# Altium footprint library Connector_TE-Connectivity.PcbLib: 65 footprints (part 3 of 5)
Each footprint in its own frame and in the unit in brackets; x right, y up, seen from the top. Pads: shape width x height; smd on the part's side, far side on the other; paste and mask are expansions set on the pad; w line width, h text height; cw(c..) or ccw(c..) is an arc to the next point about the centre after c.
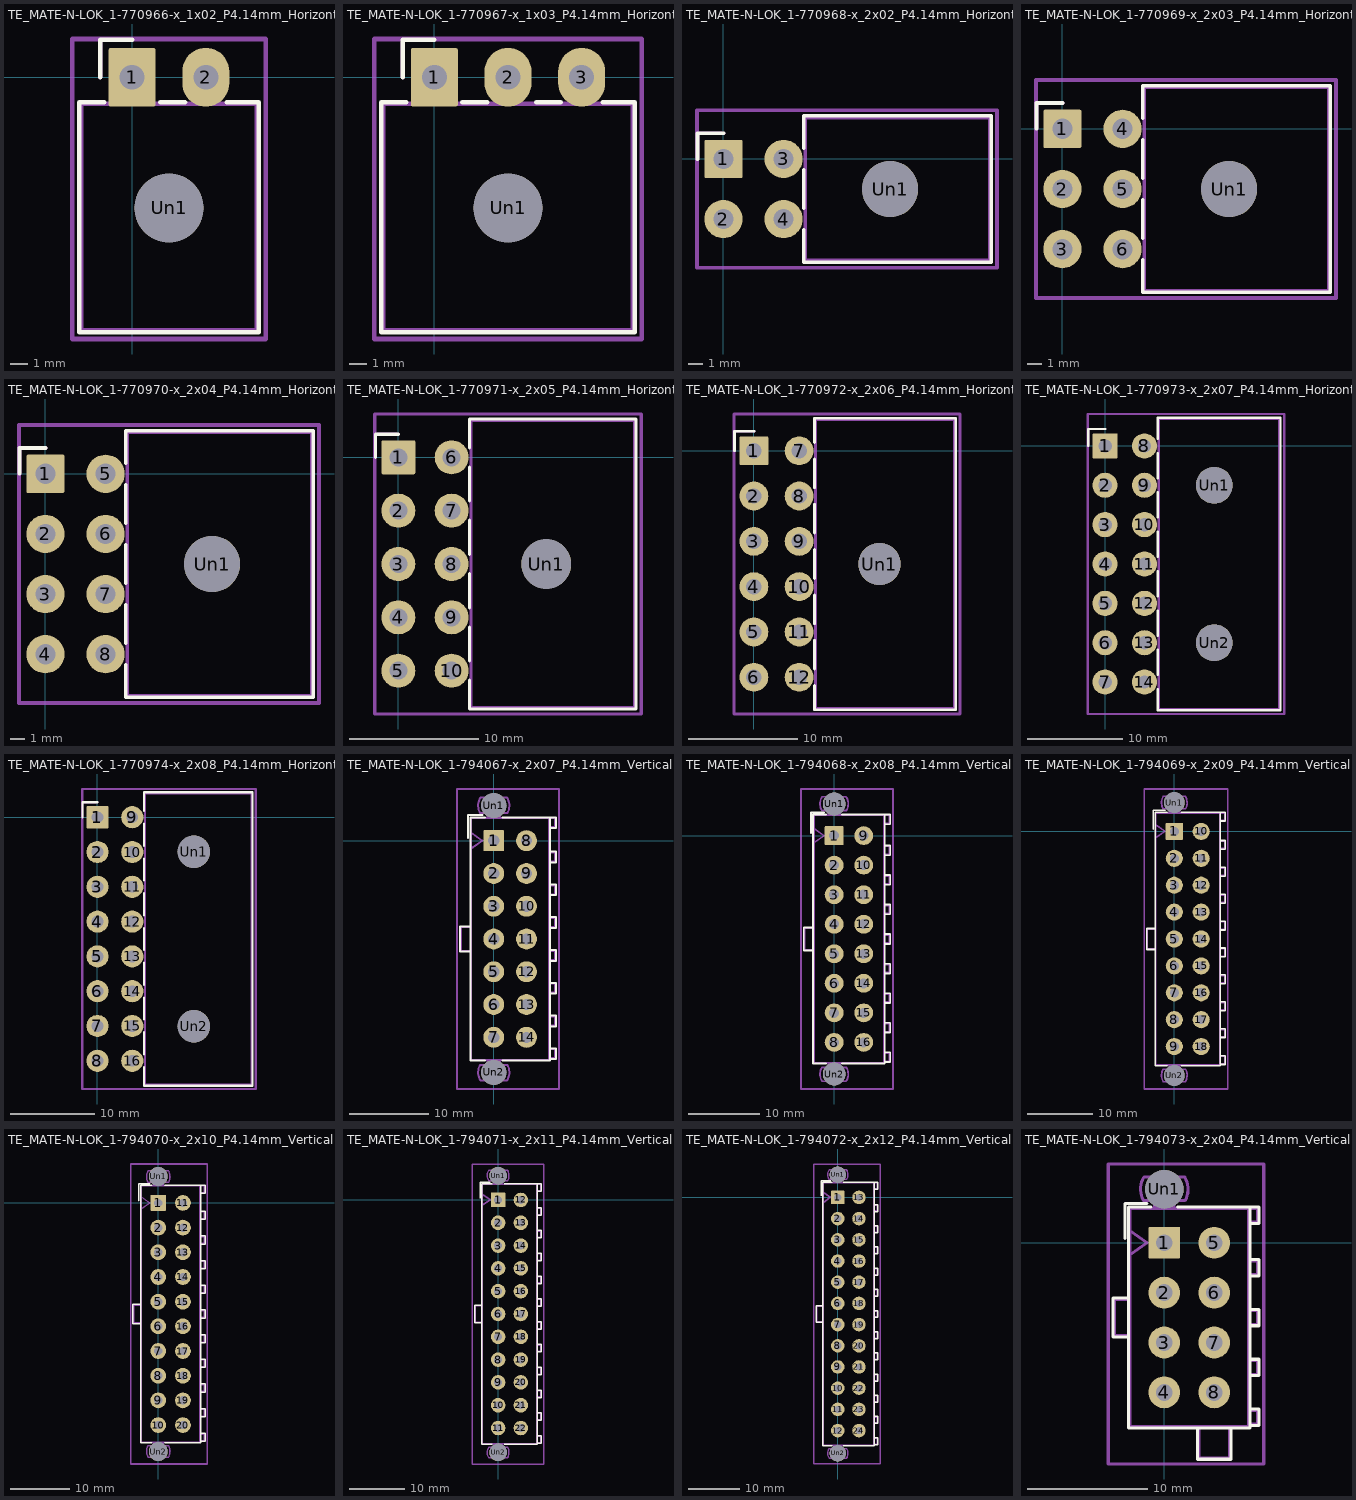
[diagram p2: the footprints below, top view; thin cyan lines are the x and y axes]

## TE_MATE-N-LOK_1-770966-x_1x02_P4.14mm_Horizontal [mm]
pads (3):
  rrect9% 2.64x3.3 hole 1.4: 1(0,0)
  rrect100% 2.64x3.3 hole 1.4: 2(4.14,0)
  round 3.86 hole 3.86: Un1(2.07,-7.34)
F.SilkS:
  lines w0.254: -1.78,0 -1.78,2.11 0,2.11 ; -1.58,-1.39 -2.97,-1.39 -2.97,-14.31 7.11,-14.31 7.11,-1.39 5.312,-1.39 ; 1.58,-1.39 2.968,-1.39
Top Assembly:
  lines w0.254: -1.78,0 -1.78,2.11 0,2.11 ; -2.86,-14.2 7,-14.2 7,-1.5 -2.86,-1.5 -2.86,-14.2
  text "'.Designator'" at -1.977,-14.34 h1
Top Courtyard:
  lines w0.254: -3.36,-14.7 7.5,-14.7 7.5,2.15 -3.36,2.15 -3.36,-14.7
Top Designator:
  text ".Designator" at -5.548,-6.783 h1.52

## TE_MATE-N-LOK_1-770967-x_1x03_P4.14mm_Horizontal [mm]
pads (4):
  rrect9% 2.64x3.3 hole 1.4: 1(0,0)
  rrect100% 2.64x3.3 hole 1.4: 2(4.14,0) 3(8.28,0)
  round 3.86 hole 3.86: Un1(4.14,-7.34)
F.SilkS:
  lines w0.254: -1.78,0 -1.78,2.11 0,2.11 ; -1.58,-1.39 -2.97,-1.39 -2.97,-14.31 11.25,-14.31 11.25,-1.39 9.452,-1.39 ; 1.58,-1.39 2.968,-1.39 ; 5.72,-1.39 7.108,-1.39
Top Assembly:
  lines w0.254: -1.78,0 -1.78,2.11 0,2.11 ; -2.86,-14.2 11.14,-14.2 11.14,-1.5 -2.86,-1.5 -2.86,-14.2
  text "'.Designator'" at 0.093,-14.34 h1
Top Courtyard:
  lines w0.254: -3.36,-14.7 11.64,-14.7 11.64,2.15 -3.36,2.15 -3.36,-14.7
Top Designator:
  text ".Designator" at -3.478,-6.783 h1.52

## TE_MATE-N-LOK_1-770968-x_2x02_P4.14mm_Horizontal [mm]
pads (5):
  rrect9% 2.64x2.64 hole 1.4: 1(0,0)
  round 2.64 hole 1.4: 2(0,-4.14) 3(4.14,0) 4(4.14,-4.14)
  round 3.86 hole 3.86: Un1(11.48,-2.07)
F.SilkS:
  lines w0.254: -1.78,0 -1.78,1.78 0,1.78 ; 5.53,-4.891 5.53,-7.11 18.45,-7.11 18.45,2.97 5.53,2.97 5.53,0.751 ; 5.53,-3.389 5.53,-0.751
Top Assembly:
  lines w0.254: -1.78,0 -1.78,1.78 0,1.78 ; 5.64,-7 18.34,-7 18.34,2.86 5.64,2.86 5.64,-7
  text "'.Designator'" at 18.48,-6.117 h1
Top Courtyard:
  lines w0.254: -1.82,-7.5 18.84,-7.5 18.84,3.36 -1.82,3.36 -1.82,-7.5
Top Designator:
  text ".Designator" at 0.892,-2.578 h1.52

## TE_MATE-N-LOK_1-770969-x_2x03_P4.14mm_Horizontal [mm]
pads (7):
  rrect9% 2.64x2.64 hole 1.4: 1(0,0)
  round 2.64 hole 1.4: 2(0,-4.14) 3(0,-8.28) 4(4.14,0) 5(4.14,-4.14) 6(4.14,-8.28)
  round 3.86 hole 3.86: Un1(11.48,-4.14)
F.SilkS:
  lines w0.254: -1.78,0 -1.78,1.78 0,1.78 ; 5.53,-9.031 5.53,-11.25 18.45,-11.25 18.45,2.97 5.53,2.97 5.53,0.751 ; 5.53,-7.529 5.53,-4.891 ; 5.53,-3.389 5.53,-0.751
Top Assembly:
  lines w0.254: -1.78,0 -1.78,1.78 0,1.78 ; 5.64,-11.14 18.34,-11.14 18.34,2.86 5.64,2.86 5.64,-11.14
  text "'.Designator'" at 18.48,-8.187 h1
Top Courtyard:
  lines w0.254: -1.82,-11.64 18.84,-11.64 18.84,3.36 -1.82,3.36 -1.82,-11.64
Top Designator:
  text ".Designator" at 0.892,-4.648 h1.52

## TE_MATE-N-LOK_1-770970-x_2x04_P4.14mm_Horizontal [mm]
pads (9):
  rrect9% 2.64x2.64 hole 1.4: 1(0,0)
  round 2.64 hole 1.4: 2(0,-4.14) 3(0,-8.28) 4(0,-12.42) 5(4.14,0) 6(4.14,-4.14) 7(4.14,-8.28) 8(4.14,-12.42)
  round 3.86 hole 3.86: Un1(11.48,-6.21)
F.SilkS:
  lines w0.254: -1.78,0 -1.78,1.78 0,1.78 ; 5.53,-13.171 5.53,-15.39 18.45,-15.39 18.45,2.97 5.53,2.97 5.53,0.751 ; 5.53,-11.669 5.53,-9.031 ; 5.53,-7.529 5.53,-4.891 ; 5.53,-3.389 5.53,-0.751
Top Assembly:
  lines w0.254: -1.78,0 -1.78,1.78 0,1.78 ; 5.64,-15.28 18.34,-15.28 18.34,2.86 5.64,2.86 5.64,-15.28
  text "'.Designator'" at 18.48,-10.257 h1
Top Courtyard:
  lines w0.254: -1.82,-15.78 18.84,-15.78 18.84,3.36 -1.82,3.36 -1.82,-15.78
Top Designator:
  text ".Designator" at 0.892,-6.718 h1.52

## TE_MATE-N-LOK_1-770971-x_2x05_P4.14mm_Horizontal [mm]
pads (11):
  rrect9% 2.64x2.64 hole 1.4: 1(0,0)
  round 2.64 hole 1.4: 2(0,-4.14) 3(0,-8.28) 4(0,-12.42) 5(0,-16.56) 6(4.14,0) 7(4.14,-4.14) 8(4.14,-8.28) 9(4.14,-12.42) 10(4.14,-16.56)
  round 3.86 hole 3.86: Un1(11.48,-8.28)
F.SilkS:
  lines w0.254: -1.78,0 -1.78,1.78 0,1.78 ; 5.53,-17.311 5.53,-19.53 18.45,-19.53 18.45,2.97 5.53,2.97 5.53,0.751 ; 5.53,-15.809 5.53,-13.171 ; 5.53,-11.669 5.53,-9.031 ; 5.53,-7.529 5.53,-4.891 ; 5.53,-3.389 5.53,-0.751
Top Assembly:
  lines w0.254: -1.78,0 -1.78,1.78 0,1.78 ; 5.64,-19.42 18.34,-19.42 18.34,2.86 5.64,2.86 5.64,-19.42
  text "'.Designator'" at 18.48,-12.327 h1
Top Courtyard:
  lines w0.254: -1.82,-19.92 18.84,-19.92 18.84,3.36 -1.82,3.36 -1.82,-19.92
Top Designator:
  text ".Designator" at 0.892,-8.788 h1.52

## TE_MATE-N-LOK_1-770972-x_2x06_P4.14mm_Horizontal [mm]
pads (13):
  rrect9% 2.64x2.64 hole 1.4: 1(0,0)
  round 2.64 hole 1.4: 2(0,-4.14) 3(0,-8.28) 4(0,-12.42) 5(0,-16.56) 6(0,-20.7) 7(4.14,0) 8(4.14,-4.14) 9(4.14,-8.28) 10(4.14,-12.42) 11(4.14,-16.56) 12(4.14,-20.7)
  round 3.86 hole 3.86: Un1(11.48,-10.35)
F.SilkS:
  lines w0.254: -1.78,0 -1.78,1.78 0,1.78 ; 5.53,-21.451 5.53,-23.67 18.45,-23.67 18.45,2.97 5.53,2.97 5.53,0.751 ; 5.53,-19.949 5.53,-17.311 ; 5.53,-15.809 5.53,-13.171 ; 5.53,-11.669 5.53,-9.031 ; 5.53,-7.529 5.53,-4.891 ; 5.53,-3.389 5.53,-0.751
Top Assembly:
  lines w0.254: -1.78,0 -1.78,1.78 0,1.78 ; 5.64,-23.56 18.34,-23.56 18.34,2.86 5.64,2.86 5.64,-23.56
  text "'.Designator'" at 18.48,-14.397 h1
Top Courtyard:
  lines w0.254: -1.82,-24.06 18.84,-24.06 18.84,3.36 -1.82,3.36 -1.82,-24.06
Top Designator:
  text ".Designator" at 0.892,-10.858 h1.52

## TE_MATE-N-LOK_1-770973-x_2x07_P4.14mm_Horizontal [mm]
pads (16):
  rrect9% 2.64x2.64 hole 1.4: 1(0,0)
  round 2.64 hole 1.4: 2(0,-4.14) 3(0,-8.28) 4(0,-12.42) 5(0,-16.56) 6(0,-20.7) 7(0,-24.84) 8(4.14,0) 9(4.14,-4.14) 10(4.14,-8.28) 11(4.14,-12.42) 12(4.14,-16.56) 13(4.14,-20.7) 14(4.14,-24.84)
  round 3.86 hole 3.86: Un1(11.48,-4.14) Un2(11.48,-20.7)
F.SilkS:
  lines w0.254: -1.78,0 -1.78,1.78 0,1.78 ; 5.53,-25.591 5.53,-27.81 18.45,-27.81 18.45,2.97 5.53,2.97 5.53,0.751 ; 5.53,-24.089 5.53,-21.451 ; 5.53,-19.949 5.53,-17.311 ; 5.53,-15.809 5.53,-13.171 ; 5.53,-11.669 5.53,-9.031 ; 5.53,-7.529 5.53,-4.891 ; 5.53,-3.389 5.53,-0.751
Top Assembly:
  lines w0.254: -1.78,0 -1.78,1.78 0,1.78 ; 5.64,-27.7 18.34,-27.7 18.34,2.86 5.64,2.86 5.64,-27.7
  text "'.Designator'" at 18.48,-16.467 h1
Top Courtyard:
  lines w0.254: -1.82,-28.2 18.84,-28.2 18.84,3.36 -1.82,3.36 -1.82,-28.2
Top Designator:
  text ".Designator" at 0.892,-12.928 h1.52

## TE_MATE-N-LOK_1-770974-x_2x08_P4.14mm_Horizontal [mm]
pads (18):
  rrect9% 2.64x2.64 hole 1.4: 1(0,0)
  round 2.64 hole 1.4: 2(0,-4.14) 3(0,-8.28) 4(0,-12.42) 5(0,-16.56) 6(0,-20.7) 7(0,-24.84) 8(0,-28.98) 9(4.14,0) 10(4.14,-4.14) 11(4.14,-8.28) 12(4.14,-12.42) 13(4.14,-16.56) 14(4.14,-20.7) 15(4.14,-24.84) 16(4.14,-28.98)
  round 3.86 hole 3.86: Un1(11.48,-4.11) Un2(11.48,-24.87)
F.SilkS:
  lines w0.254: -1.78,0 -1.78,1.78 0,1.78 ; 5.53,-29.731 5.53,-31.95 18.45,-31.95 18.45,2.97 5.53,2.97 5.53,0.751 ; 5.53,-28.229 5.53,-25.591 ; 5.53,-24.089 5.53,-21.451 ; 5.53,-19.949 5.53,-17.311 ; 5.53,-15.809 5.53,-13.171 ; 5.53,-11.669 5.53,-9.031 ; 5.53,-7.529 5.53,-4.891 ; 5.53,-3.389 5.53,-0.751
Top Assembly:
  lines w0.254: -1.78,0 -1.78,1.78 0,1.78 ; 5.64,-31.84 18.34,-31.84 18.34,2.86 5.64,2.86 5.64,-31.84
  text "'.Designator'" at 18.48,-18.537 h1
Top Courtyard:
  lines w0.254: -1.82,-32.34 18.84,-32.34 18.84,3.36 -1.82,3.36 -1.82,-32.34
Top Designator:
  text ".Designator" at 0.892,-14.998 h1.52

## TE_MATE-N-LOK_1-794067-x_2x07_P4.14mm_Vertical [mm]
pads (16):
  rrect9% 2.64x2.64 hole 1.4: 1(0,0)
  round 2.64 hole 1.4: 2(0,-4.14) 3(0,-8.28) 4(0,-12.42) 5(0,-16.56) 6(0,-20.7) 7(0,-24.84) 8(4.14,0) 9(4.14,-4.14) 10(4.14,-8.28) 11(4.14,-12.42) 12(4.14,-16.56) 13(4.14,-20.7) 14(4.14,-24.84)
  round 3.18 hole 3.18: Un1(0,4.44) Un2(0,-29.28)
F.SilkS:
  lines w0.254: -3.255,0.345 -3.255,3.255 -1.421,3.255 ; -2.955,-14.03 -4.255,-14.03 -4.255,-10.81 -2.955,-10.81 ; -1.103,-27.795 -2.955,-27.795 -2.955,2.955 -1.103,2.955 ; 1.103,-27.795 7.095,-27.795 7.095,2.955 ; 1.103,2.955 7.095,2.955 ; 7.095,-27.59 7.855,-27.59 7.855,-26.23 7.095,-26.23 ; 7.095,-23.45 7.855,-23.45 7.855,-22.09 7.095,-22.09 ; 7.095,-19.31 7.855,-19.31 7.855,-17.95 7.095,-17.95 ; 7.095,-15.17 7.855,-15.17 7.855,-13.81 7.095,-13.81 ; 7.095,-11.03 7.855,-11.03 7.855,-9.67 7.095,-9.67 ; 7.095,-6.89 7.855,-6.89 7.855,-5.53 7.095,-5.53 ; 7.095,-2.75 7.855,-2.75 7.855,-1.39 7.095,-1.39 ; 7.095,1.595 7.855,1.595 7.855,2.955 7.095,2.955
Top Assembly:
  lines w0.254: -2.845,-13.92 -4.145,-13.92 -4.145,-10.92 -2.845,-10.92 ; -2.845,-1 -1.431,0 -2.845,1 ; -0.8,-28.345 -0.8,-27.685 ; -0.8,2.845 -0.8,3.505 ; 0.8,-28.345 0.8,-27.685 ; 0.8,2.845 0.8,3.505 ; 6.985,-27.48 7.745,-27.48 7.745,-26.34 6.985,-26.34 ; 6.985,-23.34 7.745,-23.34 7.745,-22.2 6.985,-22.2 ; 6.985,-19.2 7.745,-19.2 7.745,-18.06 6.985,-18.06 ; 6.985,-15.06 7.745,-15.06 7.745,-13.92 6.985,-13.92 ; 6.985,-10.92 7.745,-10.92 7.745,-9.78 6.985,-9.78 ; 6.985,-6.78 7.745,-6.78 7.745,-5.64 6.985,-5.64 ; 6.985,-2.64 7.745,-2.64 7.745,-1.5 6.985,-1.5 ; 6.985,1.705 7.745,1.705 7.745,2.845 6.985,2.845 ; 6.985,2.845 6.985,-27.685 -2.845,-27.685 -2.845,2.845 6.985,2.845 ; -1.734,-28.345 ccw(c0,-29.28) -1.7,-30.276 1.7,-30.276 ccw(c0,-29.28) 1.734,-28.345 -1.734,-28.345 ; -1.734,3.505 cw(c0,4.44) -1.7,5.436 1.7,5.436 cw(c0,4.44) 1.734,3.505 -1.734,3.505
  text "'.Designator'" at 7.12,-16.467 h1
Top Courtyard:
  lines w0.254: -4.65,-31.37 8.25,-31.37 8.25,6.53 -4.65,6.53 -4.65,-31.37
Top Designator:
  text ".Designator" at -5.818,-12.928 h1.52

## TE_MATE-N-LOK_1-794068-x_2x08_P4.14mm_Vertical [mm]
pads (18):
  rrect9% 2.64x2.64 hole 1.4: 1(0,0)
  round 2.64 hole 1.4: 2(0,-4.14) 3(0,-8.28) 4(0,-12.42) 5(0,-16.56) 6(0,-20.7) 7(0,-24.84) 8(0,-28.98) 9(4.14,0) 10(4.14,-4.14) 11(4.14,-8.28) 12(4.14,-12.42) 13(4.14,-16.56) 14(4.14,-20.7) 15(4.14,-24.84) 16(4.14,-28.98)
  round 3.18 hole 3.18: Un1(0,4.44) Un2(0,-33.42)
F.SilkS:
  lines w0.254: -3.255,0.345 -3.255,3.255 -1.421,3.255 ; -2.955,-16.1 -4.255,-16.1 -4.255,-12.88 -2.955,-12.88 ; -1.103,-31.935 -2.955,-31.935 -2.955,2.955 -1.103,2.955 ; 1.103,-31.935 7.095,-31.935 7.095,2.955 ; 1.103,2.955 7.095,2.955 ; 7.095,-31.73 7.855,-31.73 7.855,-30.37 7.095,-30.37 ; 7.095,-27.59 7.855,-27.59 7.855,-26.23 7.095,-26.23 ; 7.095,-23.45 7.855,-23.45 7.855,-22.09 7.095,-22.09 ; 7.095,-19.31 7.855,-19.31 7.855,-17.95 7.095,-17.95 ; 7.095,-15.17 7.855,-15.17 7.855,-13.81 7.095,-13.81 ; 7.095,-11.03 7.855,-11.03 7.855,-9.67 7.095,-9.67 ; 7.095,-6.89 7.855,-6.89 7.855,-5.53 7.095,-5.53 ; 7.095,-2.75 7.855,-2.75 7.855,-1.39 7.095,-1.39 ; 7.095,1.595 7.855,1.595 7.855,2.955 7.095,2.955
Top Assembly:
  lines w0.254: -2.845,-15.99 -4.145,-15.99 -4.145,-12.99 -2.845,-12.99 ; -2.845,-1 -1.431,0 -2.845,1 ; -0.8,-32.485 -0.8,-31.825 ; -0.8,2.845 -0.8,3.505 ; 0.8,-32.485 0.8,-31.825 ; 0.8,2.845 0.8,3.505 ; 6.985,-31.62 7.745,-31.62 7.745,-30.48 6.985,-30.48 ; 6.985,-27.48 7.745,-27.48 7.745,-26.34 6.985,-26.34 ; 6.985,-23.34 7.745,-23.34 7.745,-22.2 6.985,-22.2 ; 6.985,-19.2 7.745,-19.2 7.745,-18.06 6.985,-18.06 ; 6.985,-15.06 7.745,-15.06 7.745,-13.92 6.985,-13.92 ; 6.985,-10.92 7.745,-10.92 7.745,-9.78 6.985,-9.78 ; 6.985,-6.78 7.745,-6.78 7.745,-5.64 6.985,-5.64 ; 6.985,-2.64 7.745,-2.64 7.745,-1.5 6.985,-1.5 ; 6.985,1.705 7.745,1.705 7.745,2.845 6.985,2.845 ; 6.985,2.845 6.985,-31.825 -2.845,-31.825 -2.845,2.845 6.985,2.845 ; -1.734,-32.485 ccw(c0,-33.42) -1.7,-34.416 1.7,-34.416 ccw(c0,-33.42) 1.734,-32.485 -1.734,-32.485 ; -1.734,3.505 cw(c0,4.44) -1.7,5.436 1.7,5.436 cw(c0,4.44) 1.734,3.505 -1.734,3.505
  text "'.Designator'" at 7.12,-18.537 h1
Top Courtyard:
  lines w0.254: -4.65,-35.51 8.25,-35.51 8.25,6.53 -4.65,6.53 -4.65,-35.51
Top Designator:
  text ".Designator" at -5.818,-14.998 h1.52

## TE_MATE-N-LOK_1-794069-x_2x09_P4.14mm_Vertical [mm]
pads (20):
  rrect9% 2.64x2.64 hole 1.4: 1(0,0)
  round 2.64 hole 1.4: 2(0,-4.14) 3(0,-8.28) 4(0,-12.42) 5(0,-16.56) 6(0,-20.7) 7(0,-24.84) 8(0,-28.98) 9(0,-33.12) 10(4.14,0) 11(4.14,-4.14) 12(4.14,-8.28) 13(4.14,-12.42) 14(4.14,-16.56) 15(4.14,-20.7) 16(4.14,-24.84) 17(4.14,-28.98) 18(4.14,-33.12)
  round 3.18 hole 3.18: Un1(0,4.44) Un2(0,-37.56)
F.SilkS:
  lines w0.254: -3.255,0.345 -3.255,3.255 -1.421,3.255 ; -2.955,-18.17 -4.255,-18.17 -4.255,-14.95 -2.955,-14.95 ; -1.103,-36.075 -2.955,-36.075 -2.955,2.955 -1.103,2.955 ; 1.103,-36.075 7.095,-36.075 7.095,2.955 ; 1.103,2.955 7.095,2.955 ; 7.095,-35.87 7.855,-35.87 7.855,-34.51 7.095,-34.51 ; 7.095,-31.73 7.855,-31.73 7.855,-30.37 7.095,-30.37 ; 7.095,-27.59 7.855,-27.59 7.855,-26.23 7.095,-26.23 ; 7.095,-23.45 7.855,-23.45 7.855,-22.09 7.095,-22.09 ; 7.095,-19.31 7.855,-19.31 7.855,-17.95 7.095,-17.95 ; 7.095,-15.17 7.855,-15.17 7.855,-13.81 7.095,-13.81 ; 7.095,-11.03 7.855,-11.03 7.855,-9.67 7.095,-9.67 ; 7.095,-6.89 7.855,-6.89 7.855,-5.53 7.095,-5.53 ; 7.095,-2.75 7.855,-2.75 7.855,-1.39 7.095,-1.39 ; 7.095,1.595 7.855,1.595 7.855,2.955 7.095,2.955
Top Assembly:
  lines w0.254: -2.845,-18.06 -4.145,-18.06 -4.145,-15.06 -2.845,-15.06 ; -2.845,-1 -1.431,0 -2.845,1 ; -0.8,-36.625 -0.8,-35.965 ; -0.8,2.845 -0.8,3.505 ; 0.8,-36.625 0.8,-35.965 ; 0.8,2.845 0.8,3.505 ; 6.985,-35.76 7.745,-35.76 7.745,-34.62 6.985,-34.62 ; 6.985,-31.62 7.745,-31.62 7.745,-30.48 6.985,-30.48 ; 6.985,-27.48 7.745,-27.48 7.745,-26.34 6.985,-26.34 ; 6.985,-23.34 7.745,-23.34 7.745,-22.2 6.985,-22.2 ; 6.985,-19.2 7.745,-19.2 7.745,-18.06 6.985,-18.06 ; 6.985,-15.06 7.745,-15.06 7.745,-13.92 6.985,-13.92 ; 6.985,-10.92 7.745,-10.92 7.745,-9.78 6.985,-9.78 ; 6.985,-6.78 7.745,-6.78 7.745,-5.64 6.985,-5.64 ; 6.985,-2.64 7.745,-2.64 7.745,-1.5 6.985,-1.5 ; 6.985,1.705 7.745,1.705 7.745,2.845 6.985,2.845 ; 6.985,2.845 6.985,-35.965 -2.845,-35.965 -2.845,2.845 6.985,2.845 ; -1.734,-36.625 ccw(c0,-37.56) -1.7,-38.556 1.7,-38.556 ccw(c0,-37.56) 1.734,-36.625 -1.734,-36.625 ; -1.734,3.505 cw(c0,4.44) -1.7,5.436 1.7,5.436 cw(c0,4.44) 1.734,3.505 -1.734,3.505
  text "'.Designator'" at 7.12,-20.607 h1
Top Courtyard:
  lines w0.254: -4.65,-39.65 8.25,-39.65 8.25,6.53 -4.65,6.53 -4.65,-39.65
Top Designator:
  text ".Designator" at -5.818,-17.068 h1.52

## TE_MATE-N-LOK_1-794070-x_2x10_P4.14mm_Vertical [mm]
pads (22):
  rrect9% 2.64x2.64 hole 1.4: 1(0,0)
  round 2.64 hole 1.4: 2(0,-4.14) 3(0,-8.28) 4(0,-12.42) 5(0,-16.56) 6(0,-20.7) 7(0,-24.84) 8(0,-28.98) 9(0,-33.12) 10(0,-37.26) 11(4.14,0) 12(4.14,-4.14) 13(4.14,-8.28) 14(4.14,-12.42) 15(4.14,-16.56) 16(4.14,-20.7) 17(4.14,-24.84) 18(4.14,-28.98) 19(4.14,-33.12) 20(4.14,-37.26)
  round 3.18 hole 3.18: Un1(0,4.44) Un2(0,-41.7)
F.SilkS:
  lines w0.254: -3.255,0.345 -3.255,3.255 -1.421,3.255 ; -2.955,-20.24 -4.255,-20.24 -4.255,-17.02 -2.955,-17.02 ; -1.103,-40.215 -2.955,-40.215 -2.955,2.955 -1.103,2.955 ; 1.103,-40.215 7.095,-40.215 7.095,2.955 ; 1.103,2.955 7.095,2.955 ; 7.095,-40.01 7.855,-40.01 7.855,-38.65 7.095,-38.65 ; 7.095,-35.87 7.855,-35.87 7.855,-34.51 7.095,-34.51 ; 7.095,-31.73 7.855,-31.73 7.855,-30.37 7.095,-30.37 ; 7.095,-27.59 7.855,-27.59 7.855,-26.23 7.095,-26.23 ; 7.095,-23.45 7.855,-23.45 7.855,-22.09 7.095,-22.09 ; 7.095,-19.31 7.855,-19.31 7.855,-17.95 7.095,-17.95 ; 7.095,-15.17 7.855,-15.17 7.855,-13.81 7.095,-13.81 ; 7.095,-11.03 7.855,-11.03 7.855,-9.67 7.095,-9.67 ; 7.095,-6.89 7.855,-6.89 7.855,-5.53 7.095,-5.53 ; 7.095,-2.75 7.855,-2.75 7.855,-1.39 7.095,-1.39 ; 7.095,1.595 7.855,1.595 7.855,2.955 7.095,2.955
Top Assembly:
  lines w0.254: -2.845,-20.13 -4.145,-20.13 -4.145,-17.13 -2.845,-17.13 ; -2.845,-1 -1.431,0 -2.845,1 ; -0.8,-40.765 -0.8,-40.105 ; -0.8,2.845 -0.8,3.505 ; 0.8,-40.765 0.8,-40.105 ; 0.8,2.845 0.8,3.505 ; 6.985,-39.9 7.745,-39.9 7.745,-38.76 6.985,-38.76 ; 6.985,-35.76 7.745,-35.76 7.745,-34.62 6.985,-34.62 ; 6.985,-31.62 7.745,-31.62 7.745,-30.48 6.985,-30.48 ; 6.985,-27.48 7.745,-27.48 7.745,-26.34 6.985,-26.34 ; 6.985,-23.34 7.745,-23.34 7.745,-22.2 6.985,-22.2 ; 6.985,-19.2 7.745,-19.2 7.745,-18.06 6.985,-18.06 ; 6.985,-15.06 7.745,-15.06 7.745,-13.92 6.985,-13.92 ; 6.985,-10.92 7.745,-10.92 7.745,-9.78 6.985,-9.78 ; 6.985,-6.78 7.745,-6.78 7.745,-5.64 6.985,-5.64 ; 6.985,-2.64 7.745,-2.64 7.745,-1.5 6.985,-1.5 ; 6.985,1.705 7.745,1.705 7.745,2.845 6.985,2.845 ; 6.985,2.845 6.985,-40.105 -2.845,-40.105 -2.845,2.845 6.985,2.845 ; -1.734,-40.765 ccw(c0,-41.7) -1.7,-42.696 1.7,-42.696 ccw(c0,-41.7) 1.734,-40.765 -1.734,-40.765 ; -1.734,3.505 cw(c0,4.44) -1.7,5.436 1.7,5.436 cw(c0,4.44) 1.734,3.505 -1.734,3.505
  text "'.Designator'" at 7.12,-22.677 h1
Top Courtyard:
  lines w0.254: -4.65,-43.79 8.25,-43.79 8.25,6.53 -4.65,6.53 -4.65,-43.79
Top Designator:
  text ".Designator" at -5.818,-19.138 h1.52

## TE_MATE-N-LOK_1-794071-x_2x11_P4.14mm_Vertical [mm]
pads (24):
  rrect9% 2.64x2.64 hole 1.4: 1(0,0)
  round 2.64 hole 1.4: 2(0,-4.14) 3(0,-8.28) 4(0,-12.42) 5(0,-16.56) 6(0,-20.7) 7(0,-24.84) 8(0,-28.98) 9(0,-33.12) 10(0,-37.26) 11(0,-41.4) 12(4.14,0) 13(4.14,-4.14) 14(4.14,-8.28) 15(4.14,-12.42) 16(4.14,-16.56) 17(4.14,-20.7) 18(4.14,-24.84) 19(4.14,-28.98) 20(4.14,-33.12) 21(4.14,-37.26) 22(4.14,-41.4)
  round 3.18 hole 3.18: Un1(0,4.44) Un2(0,-45.84)
F.SilkS:
  lines w0.254: -3.255,0.345 -3.255,3.255 -1.421,3.255 ; -2.955,-22.31 -4.255,-22.31 -4.255,-19.09 -2.955,-19.09 ; -1.103,-44.355 -2.955,-44.355 -2.955,2.955 -1.103,2.955 ; 1.103,-44.355 7.095,-44.355 7.095,2.955 ; 1.103,2.955 7.095,2.955 ; 7.095,-44.15 7.855,-44.15 7.855,-42.79 7.095,-42.79 ; 7.095,-40.01 7.855,-40.01 7.855,-38.65 7.095,-38.65 ; 7.095,-35.87 7.855,-35.87 7.855,-34.51 7.095,-34.51 ; 7.095,-31.73 7.855,-31.73 7.855,-30.37 7.095,-30.37 ; 7.095,-27.59 7.855,-27.59 7.855,-26.23 7.095,-26.23 ; 7.095,-23.45 7.855,-23.45 7.855,-22.09 7.095,-22.09 ; 7.095,-19.31 7.855,-19.31 7.855,-17.95 7.095,-17.95 ; 7.095,-15.17 7.855,-15.17 7.855,-13.81 7.095,-13.81 ; 7.095,-11.03 7.855,-11.03 7.855,-9.67 7.095,-9.67 ; 7.095,-6.89 7.855,-6.89 7.855,-5.53 7.095,-5.53 ; 7.095,-2.75 7.855,-2.75 7.855,-1.39 7.095,-1.39 ; 7.095,1.595 7.855,1.595 7.855,2.955 7.095,2.955
Top Assembly:
  lines w0.254: -2.845,-22.2 -4.145,-22.2 -4.145,-19.2 -2.845,-19.2 ; -2.845,-1 -1.431,0 -2.845,1 ; -0.8,-44.905 -0.8,-44.245 ; -0.8,2.845 -0.8,3.505 ; 0.8,-44.905 0.8,-44.245 ; 0.8,2.845 0.8,3.505 ; 6.985,-44.04 7.745,-44.04 7.745,-42.9 6.985,-42.9 ; 6.985,-39.9 7.745,-39.9 7.745,-38.76 6.985,-38.76 ; 6.985,-35.76 7.745,-35.76 7.745,-34.62 6.985,-34.62 ; 6.985,-31.62 7.745,-31.62 7.745,-30.48 6.985,-30.48 ; 6.985,-27.48 7.745,-27.48 7.745,-26.34 6.985,-26.34 ; 6.985,-23.34 7.745,-23.34 7.745,-22.2 6.985,-22.2 ; 6.985,-19.2 7.745,-19.2 7.745,-18.06 6.985,-18.06 ; 6.985,-15.06 7.745,-15.06 7.745,-13.92 6.985,-13.92 ; 6.985,-10.92 7.745,-10.92 7.745,-9.78 6.985,-9.78 ; 6.985,-6.78 7.745,-6.78 7.745,-5.64 6.985,-5.64 ; 6.985,-2.64 7.745,-2.64 7.745,-1.5 6.985,-1.5 ; 6.985,1.705 7.745,1.705 7.745,2.845 6.985,2.845 ; 6.985,2.845 6.985,-44.245 -2.845,-44.245 -2.845,2.845 6.985,2.845 ; -1.734,-44.905 ccw(c0,-45.84) -1.7,-46.836 1.7,-46.836 ccw(c0,-45.84) 1.734,-44.905 -1.734,-44.905 ; -1.734,3.505 cw(c0,4.44) -1.7,5.436 1.7,5.436 cw(c0,4.44) 1.734,3.505 -1.734,3.505
  text "'.Designator'" at 7.12,-24.747 h1
Top Courtyard:
  lines w0.254: -4.65,-47.93 8.25,-47.93 8.25,6.53 -4.65,6.53 -4.65,-47.93
Top Designator:
  text ".Designator" at -5.818,-21.208 h1.52

## TE_MATE-N-LOK_1-794072-x_2x12_P4.14mm_Vertical [mm]
pads (26):
  rrect9% 2.64x2.64 hole 1.4: 1(0,0)
  round 2.64 hole 1.4: 2(0,-4.14) 3(0,-8.28) 4(0,-12.42) 5(0,-16.56) 6(0,-20.7) 7(0,-24.84) 8(0,-28.98) 9(0,-33.12) 10(0,-37.26) 11(0,-41.4) 12(0,-45.54) 13(4.14,0) 14(4.14,-4.14) 15(4.14,-8.28) 16(4.14,-12.42) 17(4.14,-16.56) 18(4.14,-20.7) 19(4.14,-24.84) 20(4.14,-28.98) 21(4.14,-33.12) 22(4.14,-37.26) 23(4.14,-41.4) 24(4.14,-45.54)
  round 3.18 hole 3.18: Un1(0,4.44) Un2(0,-49.98)
F.SilkS:
  lines w0.254: -3.255,0.345 -3.255,3.255 -1.421,3.255 ; -2.955,-24.38 -4.255,-24.38 -4.255,-21.16 -2.955,-21.16 ; -1.103,-48.495 -2.955,-48.495 -2.955,2.955 -1.103,2.955 ; 1.103,-48.495 7.095,-48.495 7.095,2.955 ; 1.103,2.955 7.095,2.955 ; 7.095,-48.29 7.855,-48.29 7.855,-46.93 7.095,-46.93 ; 7.095,-44.15 7.855,-44.15 7.855,-42.79 7.095,-42.79 ; 7.095,-40.01 7.855,-40.01 7.855,-38.65 7.095,-38.65 ; 7.095,-35.87 7.855,-35.87 7.855,-34.51 7.095,-34.51 ; 7.095,-31.73 7.855,-31.73 7.855,-30.37 7.095,-30.37 ; 7.095,-27.59 7.855,-27.59 7.855,-26.23 7.095,-26.23 ; 7.095,-23.45 7.855,-23.45 7.855,-22.09 7.095,-22.09 ; 7.095,-19.31 7.855,-19.31 7.855,-17.95 7.095,-17.95 ; 7.095,-15.17 7.855,-15.17 7.855,-13.81 7.095,-13.81 ; 7.095,-11.03 7.855,-11.03 7.855,-9.67 7.095,-9.67 ; 7.095,-6.89 7.855,-6.89 7.855,-5.53 7.095,-5.53 ; 7.095,-2.75 7.855,-2.75 7.855,-1.39 7.095,-1.39 ; 7.095,1.595 7.855,1.595 7.855,2.955 7.095,2.955
Top Assembly:
  lines w0.254: -2.845,-24.27 -4.145,-24.27 -4.145,-21.27 -2.845,-21.27 ; -2.845,-1 -1.431,0 -2.845,1 ; -0.8,-49.045 -0.8,-48.385 ; -0.8,2.845 -0.8,3.505 ; 0.8,-49.045 0.8,-48.385 ; 0.8,2.845 0.8,3.505 ; 6.985,-48.18 7.745,-48.18 7.745,-47.04 6.985,-47.04 ; 6.985,-44.04 7.745,-44.04 7.745,-42.9 6.985,-42.9 ; 6.985,-39.9 7.745,-39.9 7.745,-38.76 6.985,-38.76 ; 6.985,-35.76 7.745,-35.76 7.745,-34.62 6.985,-34.62 ; 6.985,-31.62 7.745,-31.62 7.745,-30.48 6.985,-30.48 ; 6.985,-27.48 7.745,-27.48 7.745,-26.34 6.985,-26.34 ; 6.985,-23.34 7.745,-23.34 7.745,-22.2 6.985,-22.2 ; 6.985,-19.2 7.745,-19.2 7.745,-18.06 6.985,-18.06 ; 6.985,-15.06 7.745,-15.06 7.745,-13.92 6.985,-13.92 ; 6.985,-10.92 7.745,-10.92 7.745,-9.78 6.985,-9.78 ; 6.985,-6.78 7.745,-6.78 7.745,-5.64 6.985,-5.64 ; 6.985,-2.64 7.745,-2.64 7.745,-1.5 6.985,-1.5 ; 6.985,1.705 7.745,1.705 7.745,2.845 6.985,2.845 ; 6.985,2.845 6.985,-48.385 -2.845,-48.385 -2.845,2.845 6.985,2.845 ; -1.734,-49.045 ccw(c0,-49.98) -1.7,-50.976 1.7,-50.976 ccw(c0,-49.98) 1.734,-49.045 -1.734,-49.045 ; -1.734,3.505 cw(c0,4.44) -1.7,5.436 1.7,5.436 cw(c0,4.44) 1.734,3.505 -1.734,3.505
  text "'.Designator'" at 7.12,-26.817 h1
Top Courtyard:
  lines w0.254: -4.65,-52.07 8.25,-52.07 8.25,6.53 -4.65,6.53 -4.65,-52.07
Top Designator:
  text ".Designator" at -5.818,-23.278 h1.52

## TE_MATE-N-LOK_1-794073-x_2x04_P4.14mm_Vertical [mm]
pads (9):
  rrect9% 2.64x2.64 hole 1.4: 1(0,0)
  round 2.64 hole 1.4: 2(0,-4.14) 3(0,-8.28) 4(0,-12.42) 5(4.14,0) 6(4.14,-4.14) 7(4.14,-8.28) 8(4.14,-12.42)
  round 3.18 hole 3.18: Un1(0,4.44)
F.SilkS:
  lines w0.254: -3.255,0.345 -3.255,3.255 -1.421,3.255 ; -2.955,-7.82 -4.255,-7.82 -4.255,-4.6 -2.955,-4.6 ; -1.103,2.955 -2.955,2.955 -2.955,-15.375 0,-15.375 7.095,-15.375 7.095,2.955 ; 1.103,2.955 7.095,2.955 ; 2.76,-15.375 2.76,-17.966 5.52,-17.966 5.52,-15.375 ; 7.095,-15.17 7.855,-15.17 7.855,-13.81 7.095,-13.81 ; 7.095,-11.03 7.855,-11.03 7.855,-9.67 7.095,-9.67 ; 7.095,-6.89 7.855,-6.89 7.855,-5.53 7.095,-5.53 ; 7.095,-2.75 7.855,-2.75 7.855,-1.39 7.095,-1.39 ; 7.095,1.595 7.855,1.595 7.855,2.955 7.095,2.955
Top Assembly:
  lines w0.254: -2.845,-7.71 -4.145,-7.71 -4.145,-4.71 -2.845,-4.71 ; -2.845,-1 -1.431,0 -2.845,1 ; -0.8,2.845 -0.8,3.505 ; 0.8,2.845 0.8,3.505 ; 2.87,-15.265 2.87,-17.856 5.41,-17.856 5.41,-15.265 ; 6.985,-15.06 7.745,-15.06 7.745,-13.92 6.985,-13.92 ; 6.985,-10.92 7.745,-10.92 7.745,-9.78 6.985,-9.78 ; 6.985,-6.78 7.745,-6.78 7.745,-5.64 6.985,-5.64 ; 6.985,-2.64 7.745,-2.64 7.745,-1.5 6.985,-1.5 ; 6.985,1.705 7.745,1.705 7.745,2.845 6.985,2.845 ; 6.985,2.845 6.985,-15.265 -2.845,-15.265 -2.845,2.845 6.985,2.845 ; -1.734,3.505 cw(c0,4.44) -1.7,5.436 1.7,5.436 cw(c0,4.44) 1.734,3.505 -1.734,3.505
  text "'.Designator'" at 7.12,-10.257 h1
Top Courtyard:
  lines w0.254: -4.65,-18.36 8.25,-18.36 8.25,6.53 -4.65,6.53 -4.65,-18.36
Top Designator:
  text ".Designator" at -5.818,-6.423 h1.52